# EAGLE library part TRANSISTOR-NPN-DUAL-MATCHED (library ryans-common-components)
Monolithic supermatch NPN transistor pair
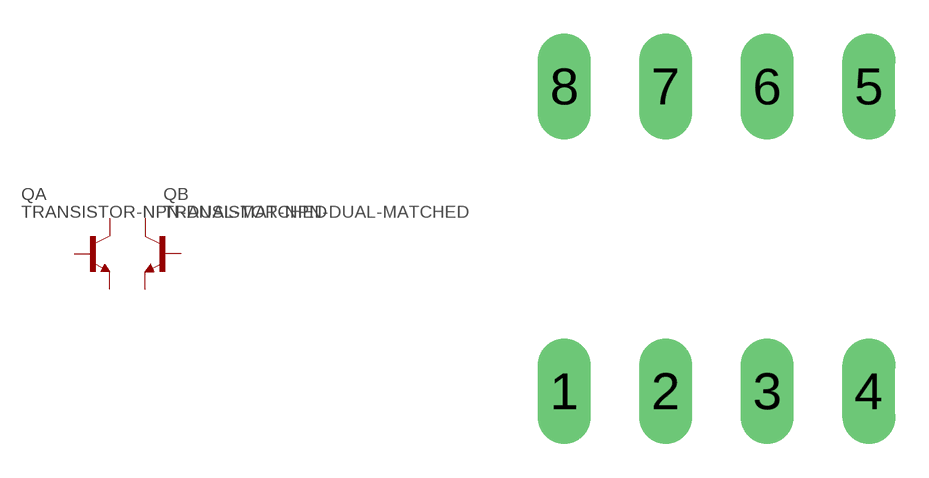
[diagram p3: symbol with the pads of DIL08-SOCKET; footprint DIL08-SOCKET]

Designator prefix Q; gates A=TRANSISTOR-NPN B=TRANSISTOR-NPN-B

## TRANSISTOR-NPN-DUAL-MATCHED-LM394N  [DIL08-SOCKET]
1  A:C  pas
2  A:B  pas
3  A:E  pas
6  B:E  pas
7  B:B  pas
8  B:C  pas

## Footprint DIL08-SOCKET (pad centres in mm)
drill 0.813 long: 1 -3.81,-3.81; 2 -1.27,-3.81; 3 1.27,-3.81; 4 3.81,-3.81; 5 3.81,3.81; 6 1.27,3.81; 7 -1.27,3.81; 8 -3.81,3.81